# Altium footprint library MX-53048.PcbLib: 6 footprints
Each footprint in its own frame and in the unit in brackets; x right, y up, seen from the top. Pads: shape width x height; smd on the part's side, far side on the other; paste and mask are expansions set on the pad; w line width, h text height; cw(c..) or ccw(c..) is an arc to the next point about the centre after c.
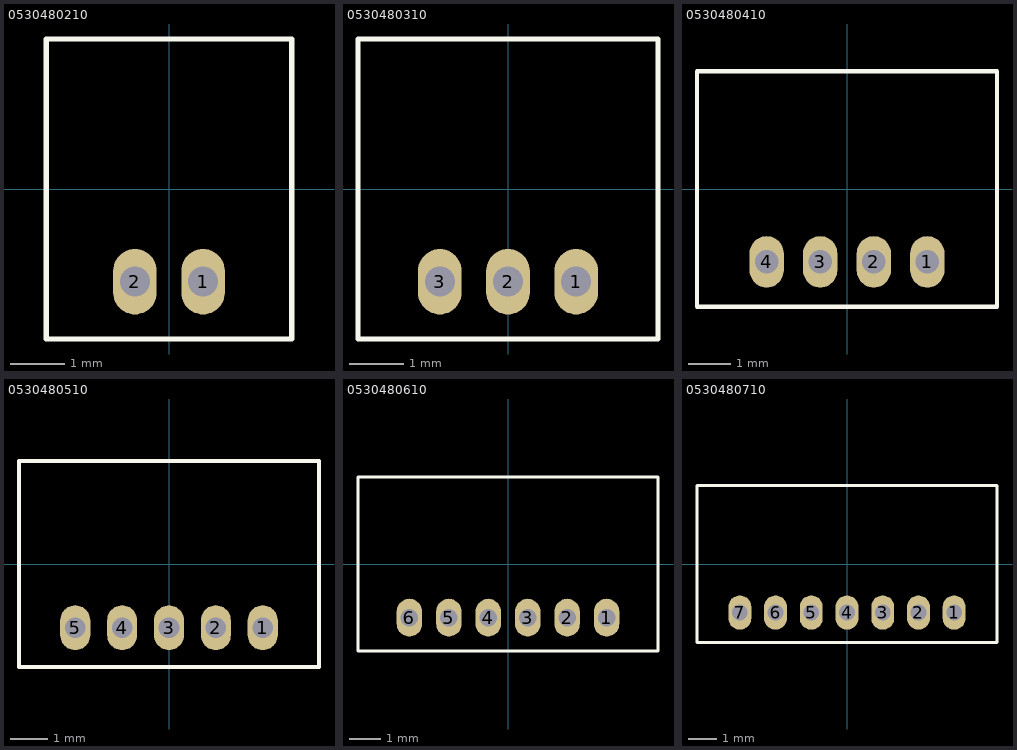
[diagram p0: the footprints below, top view; thin cyan lines are the x and y axes]

## 0530480210 [mm]
pads (2):
  oval 0.8x1.2 hole 0.55: 1(0.625,-1.7) 2(-0.625,-1.7)
Top Overlay:
  lines w0.1: -2.25,-2.75 -2.25,2.75 0.5,2.75 2.25,2.75 2.25,-2.75 -2.25,-2.75
3D body: height 3.5, standoff -2.3, extent -2.125,-2.75 2.125,2.75

## 0530480310 [mm]
pads (3):
  oval 0.8x1.2 hole 0.55: 1(1.25,-1.7) 2(0,-1.7) 3(-1.25,-1.7)
Top Overlay:
  lines w0.1: -2.75,-2.75 -2.75,2.75 1,2.75 2.75,2.75 2.75,-2.75 -2.75,-2.75
3D body: height 3.5, standoff -2.3, extent -2.75,-2.75 2.75,2.75

## 0530480410 [mm]
pads (4):
  oval 0.8x1.2 hole 0.55: 1(1.875,-1.7) 2(0.625,-1.7) 3(-0.625,-1.7) 4(-1.875,-1.7)
Top Overlay:
  lines w0.1: -3.5,-2.75 -3.5,2.75 0.5,2.75 3.5,2.75 3.5,-2.75 -3.5,-2.75
3D body: height 3.5, standoff -2.3, extent -3.375,-2.75 3.375,2.75

## 0530480510 [mm]
pads (5):
  oval 0.8x1.2 hole 0.55: 1(2.5,-1.7) 2(1.25,-1.7) 3(0,-1.7) 4(-1.25,-1.7) 5(-2.5,-1.7)
Top Overlay:
  lines w0.1: -4,-2.75 -4,2.75 1,2.75 4,2.75 4,-2.75 -4,-2.75
3D body: height 3.5, standoff -2.3, extent -4,-2.75 4,2.75

## 0530480610 [mm]
pads (6):
  oval 0.8x1.2 hole 0.55: 1(3.125,-1.7) 2(1.875,-1.7) 3(0.625,-1.7) 4(-0.625,-1.7) 5(-1.875,-1.7) 6(-3.125,-1.7)
Top Overlay:
  lines w0.1: -4.75,-2.75 -4.75,2.75 -1.25,2.75 4.75,2.75 4.75,-2.75 -4.75,-2.75
3D body: height 3.5, standoff -2.3, extent -4.625,-2.75 4.625,2.75

## 0530480710 [mm]
pads (7):
  oval 0.8x1.2 hole 0.55: 1(3.75,-1.7) 2(2.5,-1.7) 3(1.25,-1.7) 4(0,-1.7) 5(-1.25,-1.7) 6(-2.5,-1.7) 7(-3.75,-1.7)
Top Overlay:
  lines w0.1: -5.25,-2.75 5.25,-2.75 5.25,2.75 1,2.75 -5.25,2.75 -5.25,-2.75
3D body: height 3.5, standoff -2.3, extent -5.25,-2.75 5.25,2.75